# EAGLE library part 74HCT157D (library NXP_By_element14_Batch_1)
Quad 2-input multiplexer
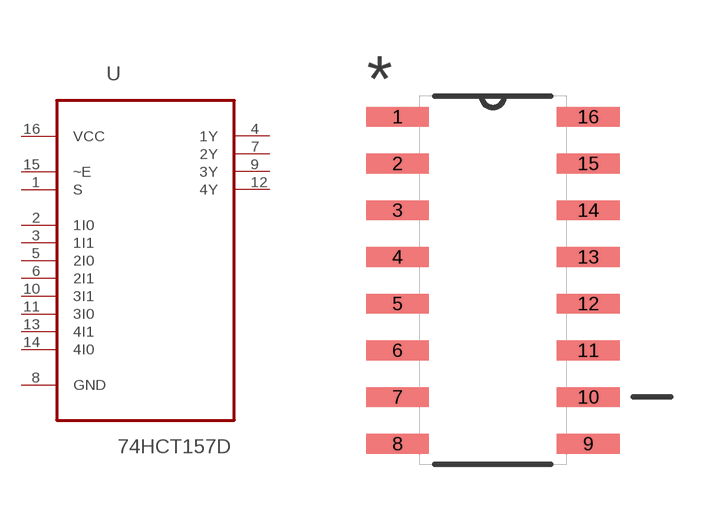
[diagram p180: symbol with the pads of SOIC127P600X175-16N; footprint SOIC127P600X175-16N]

Designator prefix U

## 74HCT157D (MPN: 74HCT157D; OC_FARNELL: 1201308; OC_NEWARK: 26M7748; PACKAGE: SOIC-16; SUPPLIER: NXP)  [SOIC127P600X175-16N]
1  S  in
2  1I0  in
3  1I1  in
4  1Y  out
5  2I0  in
6  2I1  in
7  2Y  out
8  GND  pas
9  3Y  out
10  3I1  in
11  3I0  in
12  4Y  out
13  4I1  in
14  4I0  in
15  ~E  in
16  VCC  pwr

## Footprint SOIC127P600X175-16N (pad centres in mm)
smd 1.702 x 0.533: 1 -2.591,4.445; 2 -2.591,3.175; 3 -2.591,1.905; 4 -2.591,0.635; 5 -2.591,-0.635; 6 -2.591,-1.905; 7 -2.591,-3.175; 8 -2.591,-4.445; 9 2.591,-4.445; 10 2.591,-3.175; 11 2.591,-1.905; 12 2.591,-0.635; 13 2.591,0.635; 14 2.591,1.905; 15 2.591,3.175; 16 2.591,4.445